# Altium schematic symbol library MCU.SchLib: 10 symbols
Pins are listed as number, name and electrical type; pins without a type are passive.

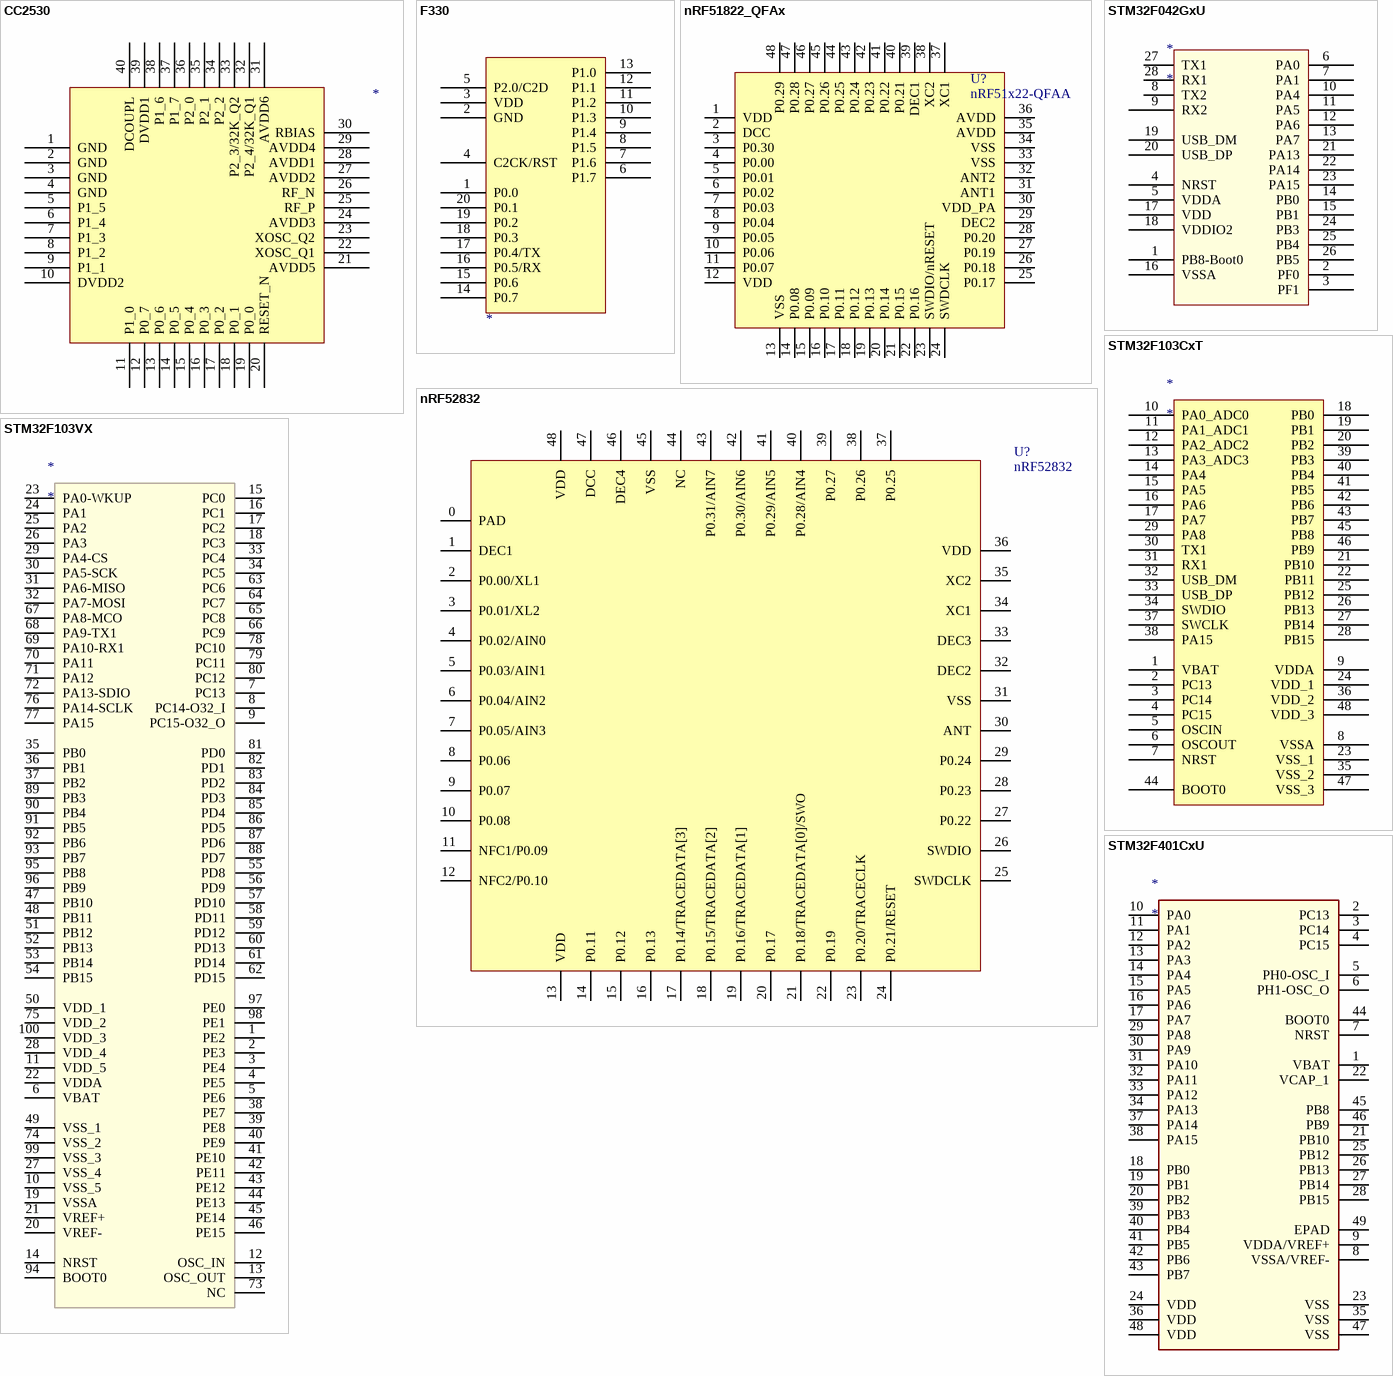
[diagram p0: symbols CC2530 to STM32F401CxU]

## CC2530
designator ?
TI
pins: 1 GND, 2 GND, 3 GND, 4 GND, 5 P1_5, 6 P1_4, 7 P1_3, 8 P1_2, 9 P1_1, 10 DVDD2, 11 P1_0, 12 P0_7, 13 P0_6, 14 P0_5, 15 P0_4, 16 P0_3, 17 P0_2, 18 P0_1, 19 P0_0, 20 RESET_N, 21 AVDD5, 22 XOSC_Q1, 23 XOSC_Q2, 24 AVDD3, 25 RF_P, 26 RF_N, 27 AVDD2, 28 AVDD1, 29 AVDD4, 30 RBIAS, 31 AVDD6, 32 P2_4/32K_Q1, 33 P2_3/32K_Q2, 34 P2_2, 35 P2_1, 36 P2_0, 37 P1_7, 38 P1_6, 39 DVDD1, 40 DCOUPL

## F330
designator ?
pins: 1 P0.0, 2 GND, 3 VDD, 4 C2CK/RST, 5 P2.0/C2D, 6 P1.7, 7 P1.6, 8 P1.5, 9 P1.4, 10 P1.3, 11 P1.2, 12 P1.1, 13 P1.0, 14 P0.7, 15 P0.6, 16 P0.5/RX, 17 P0.4/TX, 18 P0.3, 19 P0.2, 20 P0.1

## nRF51822_QFAx
designator U?, comment nRF51x22-QFAA
Manufacturer: Nordic Semiconductor; Note: nRF51422 - QFN48 6x6 0.4mm pitch; Artikkelnr Noca: N.A.; Part Number: nRF51x22-QFAA; Manufacturer Part Number: nRF51x22-QFAA; Datasheet: *; LatestRevisionDate: 2014-09-24; Pin Count: 48; Publisher: Nordic Semiconductor; Published: 2014-09-24; Value: nRF51x22-QFAA; Supplier: Nordic Semiconductor; Supplier part number: *; 2nd source Supplier: *; 2nd source part number: *; Footprint Doc: QFN-48; Artikkelnr Simpro: N.A.
footprint QFN48-6X6 (nordic   6.7  exceed 0.35mm)
pins: 1 VDD, 2 DCC, 3 P0.30, 4 P0.00, 5 P0.01, 6 P0.02, 7 P0.03, 8 P0.04, 9 P0.05, 10 P0.06, 11 P0.07, 12 VDD, 13 VSS, 14 P0.08, 15 P0.09, 16 P0.10, 17 P0.11, 18 P0.12, 19 P0.13, 20 P0.14, 21 P0.15, 22 P0.16, 23 SWDIO/nRESET, 24 SWDCLK, 25 P0.17, 26 P0.18, 27 P0.19, 28 P0.20, 29 DEC2, 30 VDD_PA, 31 ANT1, 32 ANT2, 33 VSS, 34 VSS, 35 AVDD, 36 AVDD, 37 XC1, 38 XC2, 39 DEC1, 40 P0.21, 41 P0.22, 42 P0.23, 43 P0.24, 44 P0.25, 45 P0.26, 46 P0.27, 47 P0.28, 48 P0.29, 49 (power) hidden to GND

## nRF52832
designator U?
footprint QFN-48-6X6 (nordic   6.7  exceed 0.35mm)
pins: 0 PAD, 1 DEC1, 2 P0.00/XL1, 3 P0.01/XL2, 4 P0.02/AIN0, 5 P0.03/AIN1, 6 P0.04/AIN2, 7 P0.05/AIN3, 8 P0.06, 9 P0.07, 10 P0.08, 11 NFC1/P0.09, 12 NFC2/P0.10, 13 VDD, 14 P0.11, 15 P0.12, 16 P0.13, 17 P0.14/TRACEDATA[3], 18 P0.15/TRACEDATA[2], 19 P0.16/TRACEDATA[1], 20 P0.17, 21 P0.18/TRACEDATA[0]/SWO, 22 P0.19, 23 P0.20/TRACECLK, 24 P0.21/RESET, 25 SWDCLK, 26 SWDIO, 27 P0.22, 28 P0.23, 29 P0.24, 30 ANT, 31 VSS, 32 DEC2, 33 DEC3, 34 XC1, 35 XC2, 36 VDD, 37 P0.25, 38 P0.26, 39 P0.27, 40 P0.28/AIN4, 41 P0.29/AIN5, 42 P0.30/AIN6, 43 P0.31/AIN7, 44 NC, 45 VSS, 46 DEC4, 47 DCC, 48 VDD

## STM32F042GxU
designator *
footprint UFQFPN28-4x4 (4.7x4.7mm  exceed 0.35mm)
footprint UFQFPN28-4x4-L (more little 4.5x4.5mm exceed 0.25mm)
pins: 1 PB8-Boot0, 2 PF0, 3 PF1, 4 NRST, 5 VDDA (power), 6 PA0, 7 PA1, 8 TX2, 9 RX2, 10 PA4, 11 PA5, 12 PA6, 13 PA7, 14 PB0, 15 PB1, 16 VSSA (power), 17 VDD (power), 18 VDDIO2 (power), 19 USB_DM, 20 USB_DP, 21 PA13, 22 PA14, 23 PA15, 24 PB3, 25 PB4, 26 PB5, 27 TX1, 28 RX1

## STM32F103CxT
designator *
footprint LQFP48-7x7
pins: 1 VBAT, 2 PC13, 3 PC14, 4 PC15, 5 OSCIN, 6 OSCOUT, 7 NRST, 8 VSSA, 9 VDDA, 10 PA0_ADC0, 11 PA1_ADC1, 12 PA2_ADC2, 13 PA3_ADC3, 14 PA4, 15 PA5, 16 PA6, 17 PA7, 18 PB0, 19 PB1, 20 PB2, 21 PB10, 22 PB11, 23 VSS_1, 24 VDD_1, 25 PB12, 26 PB13, 27 PB14, 28 PB15, 29 PA8, 30 TX1, 31 RX1, 32 USB_DM, 33 USB_DP, 34 SWDIO, 35 VSS_2, 36 VDD_2, 37 SWCLK, 38 PA15, 39 PB3, 40 PB4, 41 PB5, 42 PB6, 43 PB7, 44 BOOT0, 45 PB8, 46 PB9, 47 VSS_3, 48 VDD_3

## STM32F103VX
designator *
footprint LQFP100-14x14
pins: 1 PE2, 2 PE3, 3 PE4, 4 PE5, 5 PE6, 6 VBAT, 7 PC13, 8 PC14-O32_I, 9 PC15-O32_O, 10 VSS_5, 11 VDD_5, 12 OSC_IN, 13 OSC_OUT, 14 NRST, 15 PC0, 16 PC1, 17 PC2, 18 PC3, 19 VSSA, 20 VREF-, 21 VREF+, 22 VDDA, 23 PA0-WKUP, 24 PA1, 25 PA2, 26 PA3, 27 VSS_4, 28 VDD_4, 29 PA4-CS, 30 PA5-SCK, 31 PA6-MISO, 32 PA7-MOSI, 33 PC4, 34 PC5, 35 PB0, 36 PB1, 37 PB2, 38 PE7, 39 PE8, 40 PE9, 41 PE10, 42 PE11, 43 PE12, 44 PE13, 45 PE14, 46 PE15, 47 PB10, 48 PB11, 49 VSS_1, 50 VDD_1, 51 PB12, 52 PB13, 53 PB14, 54 PB15, 55 PD8, 56 PD9, 57 PD10, 58 PD11, 59 PD12, 60 PD13, 61 PD14, 62 PD15, 63 PC6, 64 PC7, 65 PC8, 66 PC9, 67 PA8-MCO, 68 PA9-TX1, 69 PA10-RX1, 70 PA11, 71 PA12, 72 PA13-SDIO, 73 NC, 74 VSS_2, 75 VDD_2, 76 PA14-SCLK, 77 PA15, 78 PC10, 79 PC11, 80 PC12, 81 PD0, 82 PD1, 83 PD2, 84 PD3, 85 PD4, 86 PD5, 87 PD6, 88 PD7, 89 PB3, 90 PB4, 91 PB5, 92 PB6, 93 PB7, 94 BOOT0, 95 PB8, 96 PB9, 97 PE0, 98 PE1, 99 VSS_3, 100 VDD_3

## STM32F401CxU
designator *
CBU CCU CDU CEU 还适用 F412C F413C 来自 xls中 STM32F4xxC1
footprint UFQFPN48-7X7 (7.7  exceed 0.35mm)
pins: 1 VBAT, 2 PC13, 3 PC14, 4 PC15, 5 PH0-OSC_I, 6 PH1-OSC_O, 7 NRST, 8 VSSA/VREF-, 9 VDDA/VREF+, 10 PA0, 11 PA1, 12 PA2, 13 PA3, 14 PA4, 15 PA5, 16 PA6, 17 PA7, 18 PB0, 19 PB1, 20 PB2, 21 PB10, 22 VCAP_1, 23 VSS, 24 VDD, 25 PB12, 26 PB13, 27 PB14, 28 PB15, 29 PA8, 30 PA9, 31 PA10, 32 PA11, 33 PA12, 34 PA13, 35 VSS, 36 VDD, 37 PA14, 38 PA15, 39 PB3, 40 PB4, 41 PB5, 42 PB6, 43 PB7, 44 BOOT0, 45 PB8, 46 PB9, 47 VSS, 48 VDD, 49 EPAD

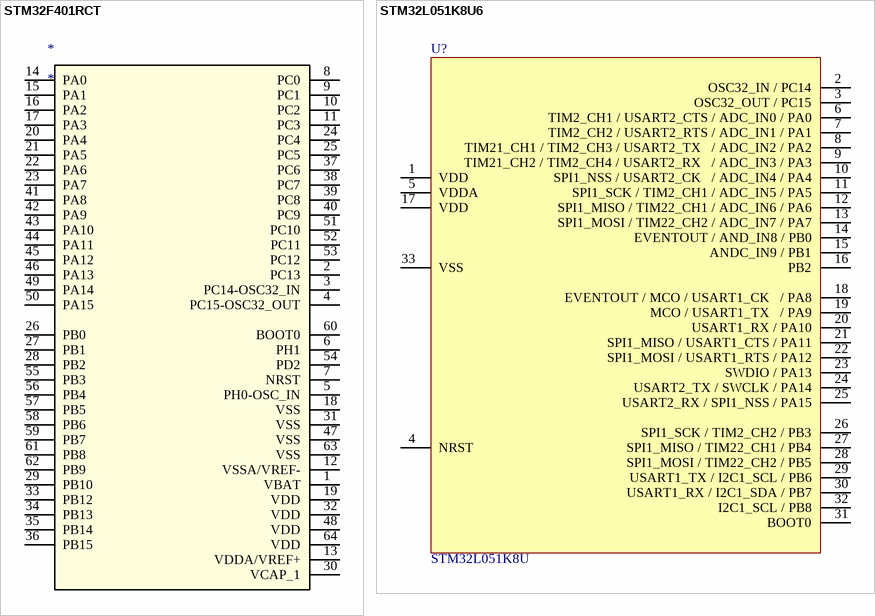
[diagram p1: symbols STM32F401RCT to STM32L051K8U6]

## STM32F401RCT
designator *
适用于F401RBT 或RCT (RD/RD 可能不适用)
footprint LQFP64-10x10
pins: 1 VBAT, 2 PC13, 3 PC14-OSC32_IN, 4 PC15-OSC32_OUT, 5 PH0-OSC_IN, 6 PH1, 7 NRST, 8 PC0, 9 PC1, 10 PC2, 11 PC3, 12 VSSA/VREF-, 13 VDDA/VREF+, 14 PA0, 15 PA1, 16 PA2, 17 PA3, 18 VSS, 19 VDD, 20 PA4, 21 PA5, 22 PA6, 23 PA7, 24 PC4, 25 PC5, 26 PB0, 27 PB1, 28 PB2, 29 PB10, 30 VCAP_1, 31 VSS, 32 VDD, 33 PB12, 34 PB13, 35 PB14, 36 PB15, 37 PC6, 38 PC7, 39 PC8, 40 PC9, 41 PA8, 42 PA9, 43 PA10, 44 PA11, 45 PA12, 46 PA13, 47 VSS, 48 VDD, 49 PA14, 50 PA15, 51 PC10, 52 PC11, 53 PC12, 54 PD2, 55 PB3, 56 PB4, 57 PB5, 58 PB6, 59 PB7, 60 BOOT0, 61 PB8, 62 PB9, 63 VSS, 64 VDD

## STM32L051K8U6
designator U?, comment STM32L051K8U
footprint UFQFPN32
pins: 1 VDD, 2 OSC32_IN / PC14, 3 OSC32_OUT / PC15, 4 NRST, 5 VDDA, 6 TIM2_CH1 / USART2_CTS / ADC_IN0 / PA0, 7 TIM2_CH2 / USART2_RTS / ADC_IN1 / PA1, 8 TIM21_CH1 / TIM2_CH3 / USART2_TX   / ADC_IN2 / PA2, 9 TIM21_CH2 / TIM2_CH4 / USART2_RX   / ADC_IN3 / PA3, 10 SPI1_NSS / USART2_CK   / ADC_IN4 / PA4, 11 SPI1_SCK / TIM2_CH1 / ADC_IN5 / PA5, 12 SPI1_MISO / TIM22_CH1 / ADC_IN6 / PA6, 13 SPI1_MOSI / TIM22_CH2 / ADC_IN7 / PA7, 14 EVENTOUT / AND_IN8 / PB0, 15 ANDC_IN9 / PB1, 16 PB2, 17 VDD, 18 EVENTOUT / MCO / USART1_CK   / PA8, 19 MCO / USART1_TX   / PA9, 20 USART1_RX / PA10, 21 SPI1_MISO / USART1_CTS / PA11, 22 SPI1_MOSI / USART1_RTS / PA12, 23 SWDIO / PA13, 24 USART2_TX / SWCLK / PA14, 25 USART2_RX / SPI1_NSS / PA15, 26 SPI1_SCK / TIM2_CH2 / PB3, 27 SPI1_MISO / TIM22_CH1 / PB4, 28 SPI1_MOSI / TIM22_CH2 / PB5, 29 USART1_TX / I2C1_SCL / PB6, 30 USART1_RX / I2C1_SDA / PB7, 31 BOOT0, 32 I2C1_SCL / PB8, 33 VSS